# Altium integrated library 3386_Potentiometer.IntLib: 1 symbol
Pins are listed as number, name and electrical type; pins without a type are passive.

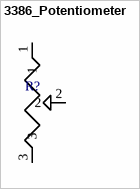
[diagram p0: symbol 3386_Potentiometer]

## 3386_Potentiometer
designator R?  (value not drawn)
Value: 10k
footprint TRIM_3362P-1-205LF
pins: 1, 2, 3